# EAGLE library part NJU9207B (library nrj-semiconductor)
3 1/2 DIGIT SINGLE CHIP DIGITAL MULTIMETER LSI Source: http://www.njr.co.jp .. NJU9207B_E.pdf
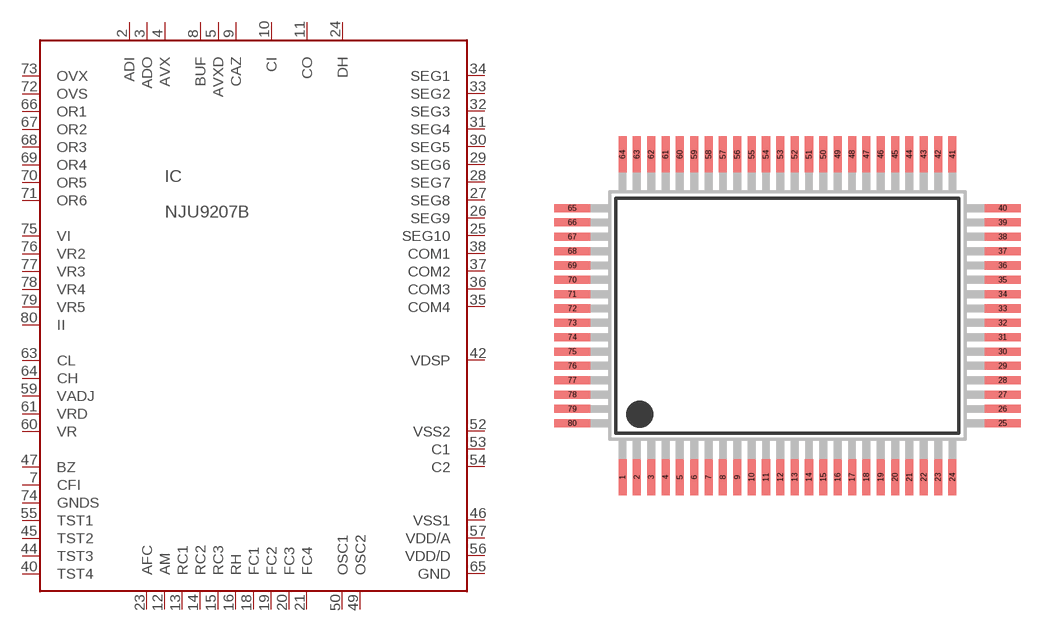
[diagram p0: symbol with the pads of QFP80-C1; footprint QFP80-C1]

Designator prefix IC

## NJU9207B (OC_FARNELL: unknown; OC_NEWARK: unknown)  [QFP80-C1]
2  ADI  in
3  ADO  in
4  AVX  in
5  AVXD  in
7  CFI  in
8  BUF  in
9  CAZ  in
10  CI  in
11  CO  out
12  AM  in
13  RC1  in
14  RC2  in
15  RC3  in
16  RH  in
18  FC1  in
19  FC2  in
20  FC3  in
21  FC4  in
23  AFC  in
24  DH  in
25  SEG10  out
26  SEG9  out
27  SEG8  out
28  SEG7  out
29  SEG6  out
30  SEG5  out
31  SEG4  out
32  SEG3  out
33  SEG2  out
34  SEG1  out
35  COM4  out
36  COM3  out
37  COM2  out
38  COM1  out
40  TST4  in
42  VDSP  out
44  TST3  in
45  TST2  in
46  VSS1  pwr
47  BZ  out
49  OSC2  in
50  OSC1  in
52  VSS2  pwr
53  C1  pwr
54  C2  pwr
55  TST1  in
56  VDD/D  pwr
57  VDD/A  pwr
59  VADJ  in
60  VR  in
61  VRD  in
63  CL  in
64  CH  in
65  GND  pwr
66  OR1  in
67  OR2  in
68  OR3  in
69  OR4  in
70  OR5  in
71  OR6  in
72  OVS  in
73  OVX  in
74  GNDS  in
75  VI  in
76  VR2  in
77  VR3  in
78  VR4  in
79  VR5  in
80  II  in

## Footprint QFP80-C1 (pad centres in mm)
QFP80-C1 (1) 20 x 14 mm Source: http://semicon.njr.co.jp .. QFP80-C1_1_E.pdf
smd 0.45 x 2: 1 -9.2,-9; 2 -8.4,-9; 3 -7.6,-9; 4 -6.8,-9; 5 -6,-9; 6 -5.2,-9; 7 -4.4,-9; 8 -3.6,-9; 9 -2.8,-9; 10 -2,-9; 11 -1.2,-9; 12 -0.4,-9; 13 0.4,-9; 14 1.2,-9; 15 2,-9; 16 2.8,-9; 17 3.6,-9; 18 4.4,-9; 19 5.2,-9; 20 6,-9; 21 6.8,-9; 22 7.6,-9; 23 8.4,-9; 24 9.2,-9; 41 9.2,9; 42 8.4,9; 43 7.6,9; 44 6.8,9; 45 6,9; 46 5.2,9; 47 4.4,9; 48 3.6,9; 49 2.8,9; 50 2,9; 51 1.2,9; 52 0.4,9; 53 -0.4,9; 54 -1.2,9; 55 -2,9; 56 -2.8,9; 57 -3.6,9; 58 -4.4,9; 59 -5.2,9; 60 -6,9; 61 -6.8,9; 62 -7.6,9; 63 -8.4,9; 64 -9.2,9
smd 2 x 0.45: 25 12,-6; 26 12,-5.2; 27 12,-4.4; 28 12,-3.6; 29 12,-2.8; 30 12,-2; 31 12,-1.2; 32 12,-0.4; 33 12,0.4; 34 12,1.2; 35 12,2; 36 12,2.8; 37 12,3.6; 38 12,4.4; 39 12,5.2; 40 12,6; 65 -12,6; 66 -12,5.2; 67 -12,4.4; 68 -12,3.6; 69 -12,2.8; 70 -12,2; 71 -12,1.2; 72 -12,0.4; 73 -12,-0.4; 74 -12,-1.2; 75 -12,-2; 76 -12,-2.8; 77 -12,-3.6; 78 -12,-4.4; 79 -12,-5.2; 80 -12,-6